# EAGLE library part MGA-62563 (library agilent-microwaveamplifiers)
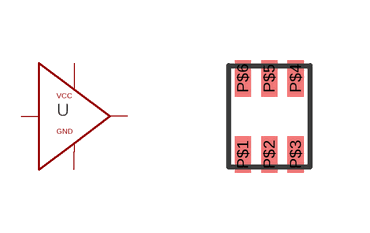
[diagram p0: symbol with the pads of SOT-363; footprint SOT-363]

Designator prefix -

## MGA-62563  [SOT-363]
P$1  GND
P$2  GND1
P$3  IN
P$4  PWR
P$5  GND2
P$6  OUT

## Footprint SOT-363 (pad centres in mm)
smd 0.406 x 0.914: P$1 -0.66,-0.953; P$2 0,-0.953; P$3 0.66,-0.953; P$4 0.66,0.953; P$5 0,0.953; P$6 -0.66,0.953